# Altium integrated library FA16C0G2A104JRU06.IntLib: 1 symbol
Pins are listed as number, name and electrical type; pins without a type are passive.

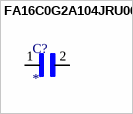
[diagram p0: symbol FA16C0G2A104JRU06]

## FA16C0G2A104JRU06
designator C?
0.1 ÂµF Â±5% 100V Ceramic Capacitor C0G, NP0 Radial; MF: TDK Corporation; MP: FA16C0G2A104JRU06; SnapEDA_Link: https://www.snapeda.com/parts/FA16C0G2A104JRU06/TDK/view-part/?ref=snap; Purchase-URL: https://pricing.snapeda.com/search/part/FA16C0G2A104JRU06/?ref=eda; Value: *; Digi-Key_Part_Number: 445-175390-1-ND; Package: Radial TDK; Check_prices: https://www.snapeda.com/parts/FA16C0G2A104JRU06/TDK/view-part/?ref=eda
footprint CAPRB250W50L550T350H600
pins: 1, 2